# Altium schematic symbol library MMBT4403-7-F Signal PNP.SchLib: 1 symbol
Pins are listed as number, name and electrical type; pins without a type are passive.

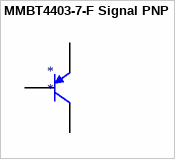
[diagram p0: symbol MMBT4403-7-F Signal PNP]

## MMBT4403-7-F Signal PNP
designator *
pins: 1 B, 2 E, 3 C